# EAGLE library part MCP73833T-FCI/MF (library 2023-05-10_02-15-25_Library)
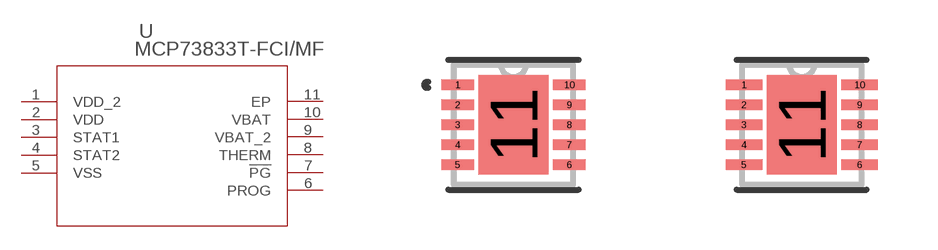
[diagram p0: symbol with the pads of DFN10_3x3MC_MCH; footprints DFN10_3x3MC_MCH, DFN10_3x3MC_MCH-M]

Designator prefix U

## MCP73833T-FCI/MFDFN10_3x3MC_MCH (Copyright: Copyright (C) 2023 Ultra Librarian. All rights reserved.; Manufacturer_Part_Number: MCP73833T-FCI/MF; Mfr_Name: Microchip)  [DFN10_3x3MC_MCH]
1  VDD_2  pas
2  VDD  pas
3  STAT1  pas
4  STAT2  pas
5  VSS  pas
6  PROG  pas
7  !PG  pas
8  THERM  pas
9  VBAT_2  pas
10  VBAT  pas
11  EP  pas

## MCP73833T-FCI/MFDFN10_3x3MC_MCH-M (Copyright: Copyright (C) 2023 Ultra Librarian. All rights reserved.; Manufacturer_Part_Number: MCP73833T-FCI/MF; Mfr_Name: Microchip)  [DFN10_3x3MC_MCH-M]
Pads as for DFN10_3x3MC_MCH

## MCP73833T-FCI/MFDFN10_3x3MC_MCH-L (Copyright: Copyright (C) 2023 Ultra Librarian. All rights reserved.; Manufacturer_Part_Number: MCP73833T-FCI/MF; Mfr_Name: Microchip)  [DFN10_3x3MC_MCH-L]
Pads as for DFN10_3x3MC_MCH

## Footprint DFN10_3x3MC_MCH (pad centres in mm)
smd 0.813 x 0.254: 1 -1.397,1; 2 -1.397,0.5; 3 -1.397,0; 4 -1.397,-0.5; 5 -1.397,-1; 6 1.397,-1; 7 1.397,-0.5; 8 1.397,0; 9 1.397,0.5; 10 1.397,1
smd 1.753 x 2.489: 11 0,0

## Footprint DFN10_3x3MC_MCH-M (pad centres in mm)
smd 0.914 x 0.254: 1 -1.448,1; 2 -1.448,0.5; 3 -1.448,0; 4 -1.448,-0.5; 5 -1.448,-1; 6 1.448,-1; 7 1.448,-0.5; 8 1.448,0; 9 1.448,0.5; 10 1.448,1
smd 1.753 x 2.489: 11 0,0

## Footprint DFN10_3x3MC_MCH-L (pad centres in mm)
smd 0.711 x 0.254: 1 -1.346,1; 2 -1.346,0.5; 3 -1.346,0; 4 -1.346,-0.5; 5 -1.346,-1; 6 1.346,-1; 7 1.346,-0.5; 8 1.346,0; 9 1.346,0.5; 10 1.346,1
smd 1.753 x 2.489: 11 0,0